# Altium footprint library SR PCB Library V01.PcbLib: 402 footprints (part 20 of 26)
Each footprint in its own frame and in the unit in brackets; x right, y up, seen from the top. Pads: shape width x height; smd on the part's side, far side on the other; paste and mask are expansions set on the pad; w line width, h text height; cw(c..) or ccw(c..) is an arc to the next point about the centre after c.
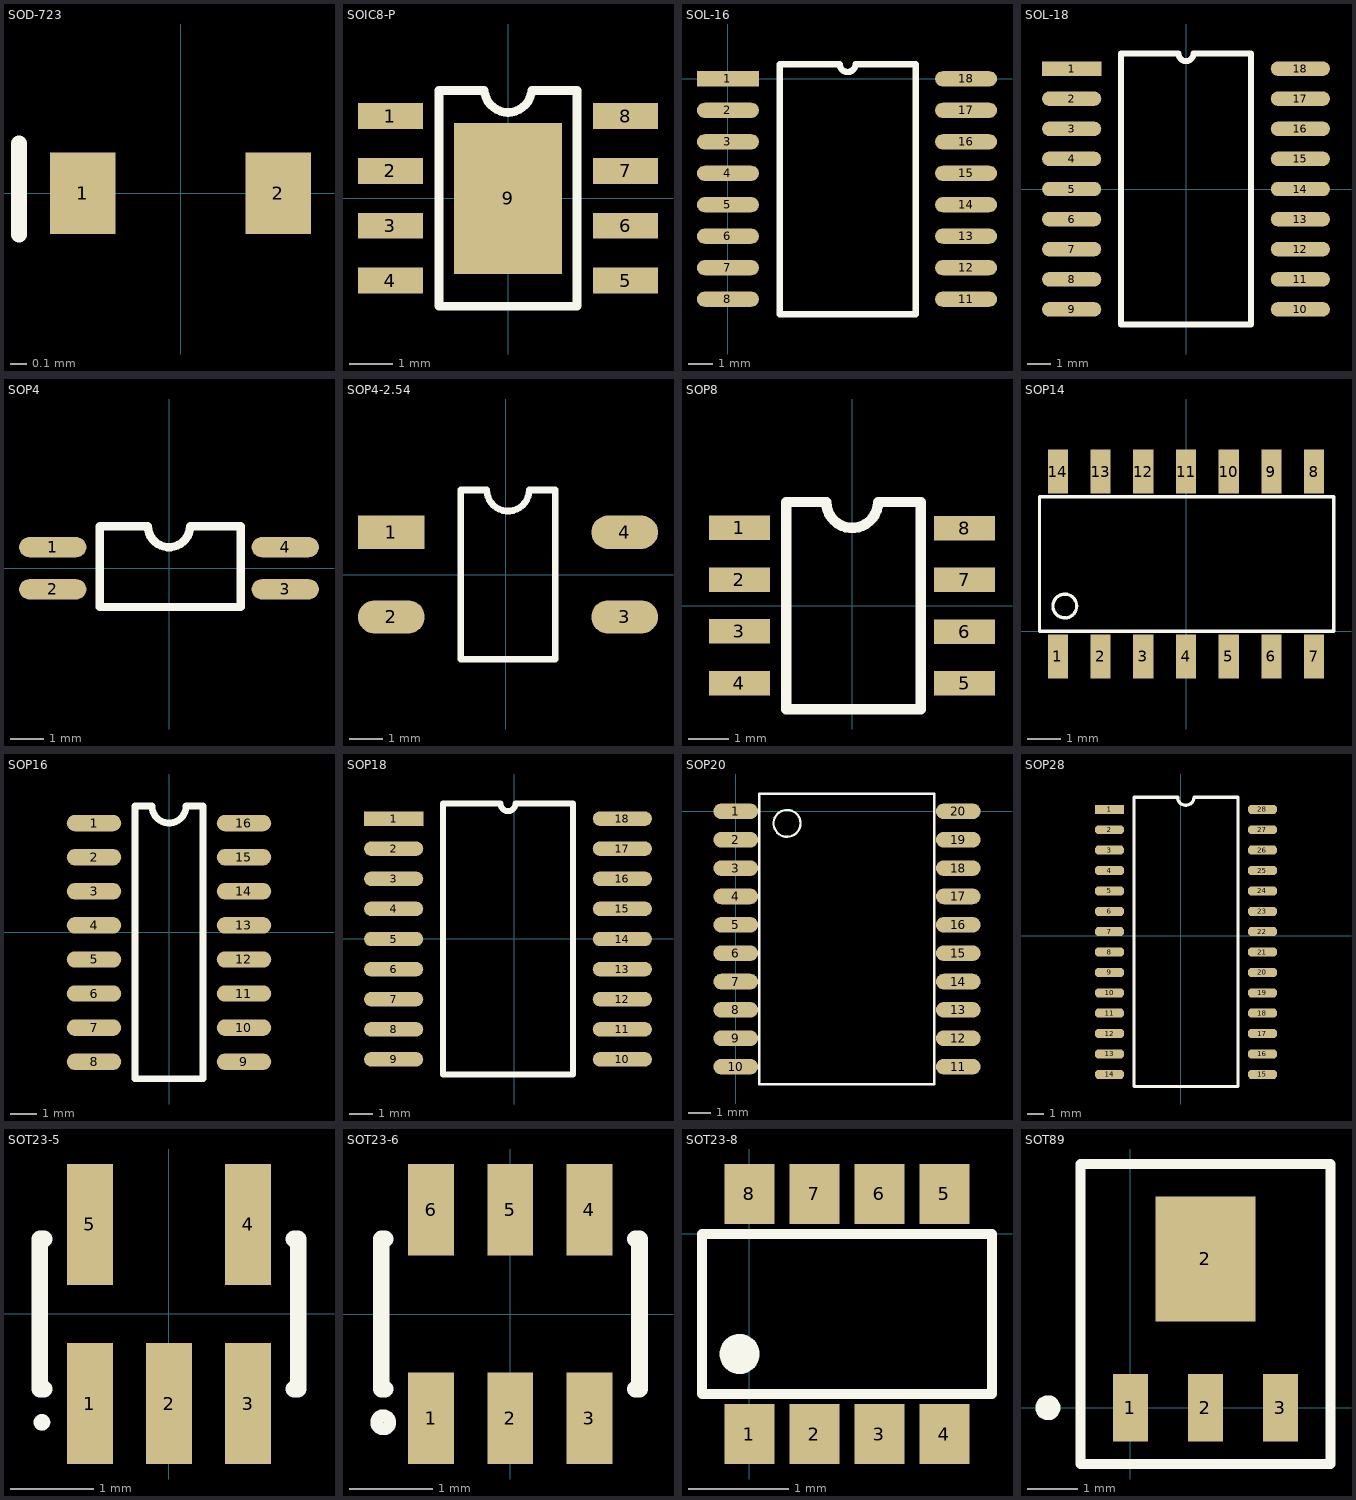
[diagram p19: the footprints below, top view; thin cyan lines are the x and y axes]

## SOD-723 [mm]
pads (2):
  rect 0.4x0.5 smd: 1(-0.6,0) 2(0.6,0)
Top Overlay:
  lines w0.1: -0.991,-0.252 -0.991,0.307

## SOIC8-P [mm] "Thermol Pad"
pads (9):
  rect 1.5x0.6 smd: 1(-2.725,1.905) 2(-2.725,0.635) 3(-2.725,-0.635) 4(-2.725,-1.905) 5(2.725,-1.905) 6(2.725,-0.635) 7(2.725,0.635) 8(2.725,1.905)
  rect 2.5x3.5 smd: 9(0,0)
Top Overlay:
  lines w0.2: -1.6,-2.5 1.6,-2.5 1.6,2.5 0.548,2.5 cw(c0,2.54) -0.548,2.5 -1.6,2.5 -1.6,-2.5

## SOL-16 [mm]
pads (16):
  rect 2.5x0.61 smd: 1(0,0)
  oval 2.5x0.61 smd: 2(0,-1.27) 3(0,-2.54) 4(0,-3.81) 5(0,-5.08) 6(0,-6.35) 7(0,-7.62) 8(0,-8.89) 11(9.6,-8.89) 12(9.6,-7.62) 13(9.6,-6.35) 14(9.6,-5.08) 15(9.6,-3.81) 16(9.6,-2.54) 17(9.6,-1.27) 18(9.6,0)
Top Overlay:
  lines w0.254: 2.085,-9.495 2.085,0.59 4.508,0.59 ccw(c4.826,0.59) 5.143,0.59 7.567,0.59 7.567,-9.495 2.085,-9.495

## SOL-18 [mil]
height 433.07
pads (18):
  rect 98.43x24 smd: 1(-190,200)
  oval 98.43x24 smd: 2(-190,150) 3(-190,100) 4(-190,50) 5(-190,0) 6(-190,-50) 7(-190,-100) 8(-190,-150) 9(-190,-200) 10(190,-200) 11(190,-150) 12(190,-100) 13(190,-50) 14(190,0) 15(190,50) 16(190,100) 17(190,150) 18(190,200)
Top Overlay:
  lines w10: -107.91,-225 -107.91,225 -12.5,225 ccw(c0,225) 12.5,225 107.91,225 107.91,-225 -107.91,-225

## SOP4 [mil]
height 98.43
pads (4):
  oval 80x24 smd: 1(-137.8,25) 2(-137.8,-25) 3(137.8,-25) 4(137.8,25)
Top Overlay:
  lines w10: -82,-46 -82,50 -25,50 ccw(c0,50) 25,50 85,50 85,-46 -82,-46

## SOP4-2.54 [mm] "引脚中心距100mil"
pads (4):
  rect 2x1 smd: 1(-3.429,1.27)
  oval 2x1 smd: 2(-3.429,-1.27) 3(3.571,-1.27) 4(3.571,1.27)
Top Overlay:
  lines w0.2: -1.344,-2.54 1.486,-2.54 1.486,2.54 0.706,2.54 cw(c0.071,2.54) -0.564,2.54 -1.344,2.54 -1.344,-2.54

## SOP8 [mm] "body:6mm"
pads (8):
  rect 1.5x0.6 smd: 1(-2.774,1.905) 2(-2.774,0.635) 3(-2.774,-0.635) 4(-2.774,-1.905) 5(2.75,-1.91) 6(2.75,-0.64) 7(2.75,0.63) 8(2.75,1.9)
Top Overlay:
  lines w0.254: -0.66,2.54 -1.626,2.54 -1.626,-2.54 1.676,-2.54 1.676,2.54 0.679,2.54 ; -0.642,2.54 ccw(c-0.007,2.54) 0.628,2.54

## SOP14 [mm]
pads (14):
  rect 0.6x1.3 smd: 1(-3.81,-0.75) 2(-2.54,-0.75) 3(-1.27,-0.75) 4(0,-0.75) 5(1.27,-0.75) 6(2.54,-0.75) 7(3.81,-0.75) 8(3.81,4.75) 9(2.54,4.75) 10(1.27,4.75) 11(0,4.75) 12(-1.27,4.75) 13(-2.54,4.75) 14(-3.81,4.75)
Top Overlay:
  circle w0.1: c-3.604,0.75 r0.354
  lines w0.1: -4.355,0 4.395,0 4.395,4 -4.355,4 -4.355,0

## SOP16 [mil] "引脚中心距50mil"
pads (16):
  oval 80x24 smd: 1(-110,160) 2(-110,110) 3(-110,60) 4(-110,10) 5(-110,-40) 6(-110,-90) 7(-110,-140) 8(-110,-190) 9(110,-190) 10(110,-140) 11(110,-90) 12(110,-40) 13(110,10) 14(110,60) 15(110,110) 16(110,160)
Top Overlay:
  lines w10: -50,-215 50,-215 50,185 25,185 cw(c0,185) -25,185 -50,185 -50,-215

## SOP18 [mil] "引脚中心距50mil"
pads (18):
  rect 98.43x24 smd: 1(-200,200)
  oval 98.43x24 smd: 2(-200,150) 3(-200,100) 4(-200,50) 5(-200,0) 6(-200,-50) 7(-200,-100) 8(-200,-150) 9(-200,-200) 10(180,-200) 11(180,-150) 12(180,-100) 13(180,-50) 14(180,0) 15(180,50) 16(180,100) 17(180,150) 18(180,200)
Top Overlay:
  lines w10: -117.91,-225 97.91,-225 97.91,225 2.5,225 cw(c-10,225) -22.5,225 -117.91,225 -117.91,-225

## SOP20 [mm]
pads (20):
  oval 2x0.7 smd: 1(0,0) 2(0,-1.27) 3(0,-2.54) 4(0,-3.81) 5(0,-5.08) 6(0,-6.35) 7(0,-7.62) 8(0,-8.89) 9(0,-10.16) 10(0,-11.43) 11(9.965,-11.43) 12(9.965,-10.16) 13(9.965,-8.89) 14(9.965,-7.62) 15(9.965,-6.35) 16(9.965,-5.08) 17(9.965,-3.81) 18(9.965,-2.54) 19(9.965,-1.27) 20(9.965,0)
Top Overlay:
  circle w0.1: c2.299,-0.538 r0.603
  lines w0.1: 1.056,-12.221 1.056,0.779 ; 1.056,-12.215 8.89,-12.215 8.89,0.785 1.056,0.785

## SOP28 [mil] "引脚中心距50mil"
pads (28):
  rect 72x22 smd: 1(-175,310)
  oct 72x22 smd: 2(-175,260) 3(-175,210) 4(-175,160) 5(-175,110) 6(-175,60) 7(-175,10) 8(-175,-40) 9(-175,-90) 10(-175,-140) 11(-175,-190) 12(-175,-240) 13(-175,-290) 14(-175,-340) 15(200,-340) 16(200,-290) 17(200,-240) 18(200,-190) 19(200,-140) 20(200,-90) 21(200,-40) 22(200,10) 23(200,60) 24(200,110) 25(200,160) 26(200,210) 27(200,260) 28(200,310)
Top Overlay:
  lines w8: -115,-370 140,-370 140,340 32,340 cw(c12,340) -8,340 -115,340 -115,-370

## SOT23-5 [mm]
height 1
pads (5):
  rect 0.55x1.45 smd: 1(-0.95,-1.075) 2(0,-1.075) 3(0.95,-1.075) 4(0.95,1.075) 5(-0.95,1.075)
Top Overlay:
  circle w0.1: c-1.525,-1.3 r0.05
  lines w0.2: -1.5,-0.9 -1.55,-0.9 -1.55,0.9 -1.5,0.9 ; 1.5,-0.9 1.55,-0.9 1.55,0.9 1.5,0.9

## SOT23-6 [mm]
height 1
pads (6):
  rect 0.55x1.1 smd: 1(-0.95,-1.25) 2(0,-1.25) 3(0.95,-1.25) 4(0.95,1.25) 5(0,1.25) 6(-0.95,1.25)
Top Overlay:
  circle w0.15: c-1.525,-1.3 r0.08
  lines w0.2: -1.5,-0.9 -1.55,-0.9 -1.55,0.9 -1.5,0.9 ; 1.5,-0.9 1.55,-0.9 1.55,0.9 1.5,0.9

## SOT23-8 [mm]
pads (8):
  rect 0.5x0.6 smd: 1(0,-2) 2(0.65,-2) 3(1.3,-2) 4(1.95,-2) 5(1.95,0.4) 6(1.3,0.4) 7(0.65,0.4) 8(0,0.4)
Top Overlay:
  circle w0.2: c-0.1,-1.2 r0.1
  lines w0.1: -0.475,-1.6 2.425,-1.6 2.425,0 -0.475,0 -0.475,-1.6

## SOT89 [mm] "SOT-89; Body 4.6 x 4.25 mm, inc. leads (LxW max)"
height 1.6
pads (4):
  rect 0.7x1.35 smd: 1(0,0) 2(1.5,0) 3(3,0)
  rect 2x2.5 smd: 2(1.5,2.975)
Top Overlay:
  circle w0.25: c-1.65,0 r0.125
  lines w0.2: -1,-1.125 -1,4.875 4,4.875 4,-1.125 -1,-1.125